# EAGLE library part BUS-Z50 (library Custom)
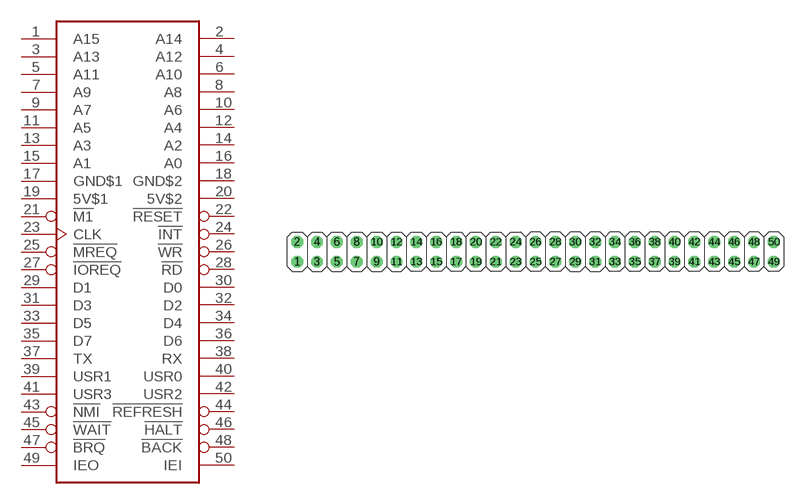
[diagram p29: symbol with the pads of 2X25; footprint 2X25]

Designator prefix -

## BUS-Z50  [2X25]
1  A15
2  A14
3  A13
4  A12
5  A11
6  A10
7  A9
8  A8
9  A7
10  A6
11  A5
12  A4
13  A3
14  A2
15  A1
16  A0
17  GND$1
18  GND$2
19  5V$1
20  5V$2
21  !M1
22  !RESET
23  CLK
24  !INT
25  !MREQ
26  !WR
27  !IOREQ
28  !RD
29  D1
30  D0
31  D3
32  D2
33  D5
34  D4
35  D7
36  D6
37  TX
38  RX
39  USR1
40  USR0
41  USR3
42  USR2
43  !NMI
44  !REFRESH
45  !WAIT
46  !HALT
47  !BRQ
48  !BACK
49  IEO
50  IEI

## Footprint 2X25 (pad centres in mm)
PIN HEADER
drill 1.016 octagon: 1 -30.48,-1.27; 2 -30.48,1.27; 3 -27.94,-1.27; 4 -27.94,1.27; 5 -25.4,-1.27; 6 -25.4,1.27; 7 -22.86,-1.27; 8 -22.86,1.27; 9 -20.32,-1.27; 10 -20.32,1.27; 11 -17.78,-1.27; 12 -17.78,1.27; 13 -15.24,-1.27; 14 -15.24,1.27; 15 -12.7,-1.27; 16 -12.7,1.27; 17 -10.16,-1.27; 18 -10.16,1.27; 19 -7.62,-1.27; 20 -7.62,1.27; 21 -5.08,-1.27; 22 -5.08,1.27; 23 -2.54,-1.27; 24 -2.54,1.27; 25 0,-1.27; 26 0,1.27; 27 2.54,-1.27; 28 2.54,1.27; 29 5.08,-1.27; 30 5.08,1.27; 31 7.62,-1.27; 32 7.62,1.27; 33 10.16,-1.27; 34 10.16,1.27; 35 12.7,-1.27; 36 12.7,1.27; 37 15.24,-1.27; 38 15.24,1.27; 39 17.78,-1.27; 40 17.78,1.27; 41 20.32,-1.27; 42 20.32,1.27; 43 22.86,-1.27; 44 22.86,1.27; 45 25.4,-1.27; 46 25.4,1.27; 47 27.94,-1.27; 48 27.94,1.27; 49 30.48,-1.27; 50 30.48,1.27